# EAGLE library part SHT2 (library SENSOR)
SENSOR HUMI/TEMP 3V I2C 1.8% SMD SHT2X Series Digital Humidity Sensors SHT20: <https://www.sensirion.com/fileadmin/user_upload/customers/sensirion/Dokumente/2_Humidity_Sensors/Sensirion_Humidity_Sensors_SHT20_Datasheet_V4.pdf> ±3% RH accuracy SHT21: <https://www.sensirion.com/fileadmin/user_upload/customers/sensirion/Dokumente/2_Humidity_Sensors/Sensirion_Humidity_Sensors_SHT21_Datasheet_V4.pdf> ±2% RH accuracy SHT25: <https://www.sensirion.com/fileadmin/user_upload/customers/sensirion/Dokumente/2_Humidity_Sensors/Sensirion_Humidity_Sensors_SHT25_Datasheet_V3.pdf> ±1.8% RH accuracy Product Page <http://www.sensirion.com/en/products/humidity-temperature/humidity-temperature-sensor-sht2x/>
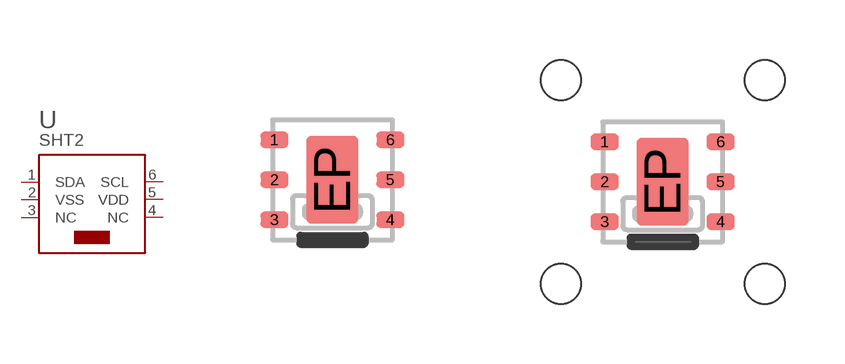
[diagram p1: symbol with the pads of DFN-6-SHT; footprints DFN-6-SHT, DFN-6-SHT-CAP]

Designator prefix U

## SHT20 (DATASHEET: https://goo.gl/UxNhMc; DESC: SENSOR HUMID/TEMP 3V I2C 3% SMD; MANF: Sensirion AG; MFPN: SHT20; PARTNO: NEW; STATUS: Active; TOL: ±3%RH; VALUE: SHT20; VSUP: 2.1V ~ 3.6V), SHT21 (DATASHEET: https://goo.gl/5e5PFd; DESC: SENSOR HUMID/TEMP 3V I2C 2% SMD; MANF: Sensirion AG; MFPN: SHT21; PARTNO: 01-100426-00; STATUS: Active; TOL: ±2%RH; VALUE: SHT21; VSUP: 2.1V ~ 3.6V), SHT25 (DATASHEET: https://goo.gl/V4XnNc; DESC: SENSOR HUMI/TEMP 3V I2C 1.8% SMD; MANF: Sensirion AG; MFPN: SHT25; PARTNO: NEW; STATUS: Active; TOL: ±1.8RH; VALUE: SHT25; VSUP: 2.1V ~ 3.6V)  [DFN-6-SHT]
1  SDA
2  VSS  pwr
3  NC  nc
4  NC  nc
5  VDD  pwr
6  SCL

## SHT20-CAP (DATASHEET: https://goo.gl/UxNhMc; DESC: SENSOR HUMID/TEMP 3V I2C 3% SMD; MANF: Sensirion AG; MFPN: SHT20; PARTNO: NEW; STATUS: Active; TOL: ±3%RH; VALUE: ±3%RH; VSUP: 2.1V ~ 3.6V), SHT21-CAP (DATASHEET: https://goo.gl/5e5PFd; DESC: SENSOR HUMID/TEMP 3V I2C 2% SMD; MANF: Sensirion AG; MFPN: SHT21; PARTNO: 01-100426-00; STATUS: Active; TOL: ±2%RH; VALUE: ±2%RH; VSUP: 2.1V ~ 3.6V), SHT25-CAP (DATASHEET: https://goo.gl/V4XnNc; DESC: SENSOR HUMI/TEMP 3V I2C 1.8% SMD; MANF: Sensirion AG; MFPN: SHT25; PARTNO: NEW; STATUS: Active; TOL: ±1.8RH; VALUE: ±1.8RH; VSUP: 2.1V ~ 3.6V)  [DFN-6-SHT-CAP]
Pads as for DFN-6-SHT

## Footprint DFN-6-SHT (pad centres in mm)
DFN-6 w/Exposed Pad
smd 0.7 x 0.4: 1 -1.45,1; 2 -1.45,0; 3 -1.45,-1; 4 1.45,-1; 5 1.45,0; 6 1.45,1
smd 1.3 x 2.2: EP 0,0

## Footprint DFN-6-SHT-CAP (pad centres in mm)
DFN-6 w/Exposed Pad w/ Filter Cap SF2 <https://www.sensirion.com/fileadmin/user_upload/customers/sensirion/Dokumente/2_Humidity_Sensors/Sensirion_Humidity_Sensors_SF2_Filter_Cap_Datasheet_V2.pdf>
smd 0.7 x 0.4: 1 -1.45,1; 2 -1.45,0; 3 -1.45,-1; 4 1.45,-1; 5 1.45,0; 6 1.45,1
smd 1.3 x 2.2: EP 0,0
hole 1 at -2.55,2.55
hole 1 at -2.55,-2.55
hole 1 at 2.55,-2.55
hole 1 at 2.55,2.55